# EAGLE library part RT8289GSP (library msut_zadaca3)
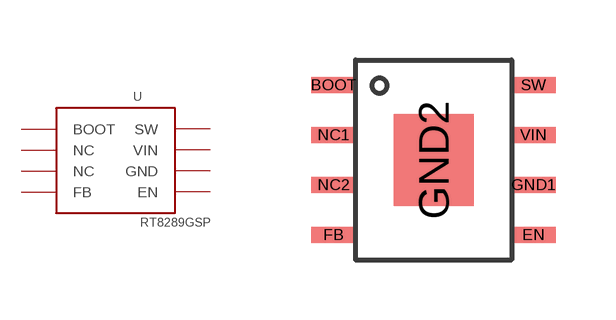
[diagram p1: symbol with the pads of 8-SOIC; footprint 8-SOIC]

Designator prefix U

## RT8289GSP  [8-SOIC]
BOOT  BOOT
EN  EN
FB  FB
GND1  GND
GND2  GND
NC1  NC
NC2  NC
SW  SW
VIN  VIN

## Footprint 8-SOIC (pad centres in mm)
smd 1.1 x 0.4: BOOT 0,1.875; EN 5,-1.875; FB 0,-1.875; GND1 5,-0.625; NC1 0,0.625; NC2 0,-0.625; SW 5,1.875; VIN 5,0.625
smd 2 x 2.3: GND2 2.5,0